# Altium schematic symbol library Interface_Telecom.SchLib: 3 symbols
Pins are listed as number, name and electrical type; pins without a type are passive.

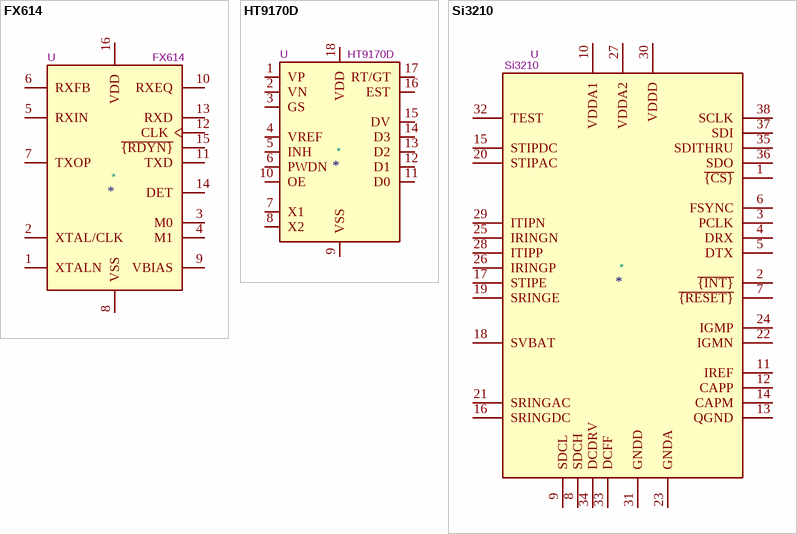
[diagram p0: symbols FX614 to Si3210]

## FX614
designator *  value FX614  Reference: U
ki_keywords: Bell Modem; ki_description: Bell 202 Compatible Modem, DIP-16/SO-16; ki_fp_filters: DIP* PDIP* SO*; Datasheet: https://www.cmlmicro.com/wp-content/uploads/2017/06/FX614_ds.pdf
pins: 1 XTALN, 2 XTAL/CLK, 3 M0, 4 M1, 5 RXIN, 6 RXFB, 7 TXOP, 8 VSS, 9 VBIAS, 10 RXEQ, 11 TXD, 12 CLK, 13 RXD, 14 DET, 15 ~{{RDYN}}, 16 VDD

## HT9170D
designator *  value HT9170D  Reference: U
ki_keywords: DTMF Receiver; ki_description: DTMF receiver with 4 bit output, SOIC-18; ki_fp_filters: SOIC*7.5x11.6mm*P1.27mm*; Footprint: Package_SO:SOIC-18W_7.5x11.6mm_P1.27mm; Datasheet: http://www.holtek.com/documents/10179/116711/9170v111.pdf
pins: 1 VP, 2 VN, 3 GS, 4 VREF, 5 INH, 6 PWDN, 7 X1, 8 X2, 9 VSS, 10 OE, 11 D0, 12 D1, 13 D2, 14 D3, 15 DV, 16 EST, 17 RT/GT, 18 VDD

## Si3210
designator *  value Si3210  Reference: U
ki_keywords: ProSLIC slic; ki_description: ProSLIC Programmable cmos slic/codec with ringing/battery voltage generation; ki_fp_filters: TSSOP*; Footprint: Package_SO:TSSOP-38_4.4x9.7mm_P0.5mm; Datasheet: http://www.mouser.com/ds/2/368/si3210-38974.pdf
pins: 1 ~{{CS}}, 2 ~{{INT}}, 3 PCLK, 4 DRX, 5 DTX, 6 FSYNC, 7 ~{{RESET}}, 8 SDCH, 9 SDCL, 10 VDDA1, 11 IREF, 12 CAPP, 13 QGND, 14 CAPM, 15 STIPDC, 16 SRINGDC, 17 STIPE, 18 SVBAT, 19 SRINGE, 20 STIPAC, 21 SRINGAC, 22 IGMN, 23 GNDA, 24 IGMP, 25 IRINGN, 26 IRINGP, 27 VDDA2, 28 ITIPP, 29 ITIPN, 30 VDDD, 31 GNDD, 32 TEST, 33 DCFF, 34 DCDRV, 35 SDITHRU, 36 SDO, 37 SDI, 38 SCLK